# Altium integrated library WD Peripheral GPIB Interface Controller.IntLib: 3 symbols
Pins are listed as number, name and electrical type; pins without a type are passive.

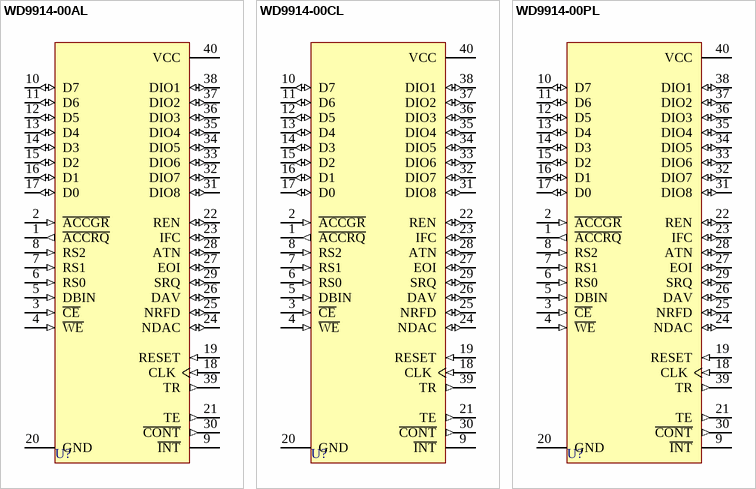
[diagram p0: symbols WD9914-00AL to WD9914-00PL]

## WD9914-00AL
designator U?
General Purpose Interface Bus Controller; PackageDocument: 1984; Published: 8-Jun-2000; LatestRevisionDate: 4-Mar-2005; LatestRevisionNote: Stylized 3D Model Added.; DatasheetDocument: 1984; PackageReference: AL40; Publisher: Altium Limited; ComponentLink1Description: Manufacturer Link; ComponentLink1URL: http://www.wdc.com/
footprint AL40 (DIP; 40 Leads; Row Spacing 15.24 mm; Pitch 2.54 mm)
3D model AL40 (DIP; 40 Leads; Row Spacing 15.24 mm; Pitch 2.54 mm)
pins: 1 ~{ACCRQ} (out), 2 ~{ACCGR} (in), 3 ~{CE} (in), 4 ~{WE} (in), 5 DBIN (in), 6 RS0 (in), 7 RS1 (in), 8 RS2 (in), 9 ~{INT} (oc), 10 D7 (io), 11 D6 (io), 12 D5 (io), 13 D4 (io), 14 D3 (io), 15 D2 (io), 16 D1 (io), 17 D0 (io), 18 CLK (in), 19 RESET (in), 20 GND (power), 21 TE (out), 22 REN (io), 23 IFC (io), 24 NDAC (io), 25 NRFD (io), 26 DAV (io), 27 EOI (io), 28 ATN (io), 29 SRQ (io), 30 ~{CONT} (out), 31 DIO8 (io), 32 DIO7 (io), 33 DIO6 (io), 34 DIO5 (io), 35 DIO4 (io), 36 DIO3 (io), 37 DIO2 (io), 38 DIO1 (io), 39 TR (out), 40 VCC (power)

## WD9914-00CL
designator U?
General Purpose Interface Bus Controller; PackageDocument: 1984; Published: 8-Jun-2000; LatestRevisionDate: 4-Mar-2005; LatestRevisionNote: Stylized 3D Model Added.; DatasheetDocument: 1984; PackageReference: CL40; Publisher: Altium Limited; ComponentLink1Description: Manufacturer Link; ComponentLink1URL: http://www.wdc.com/
footprint CL40 (DIP; 40 Leads; Row Spacing 15.24 mm; Pitch 2.54 mm)
3D model PL40 (DIP; 40 Leads; Row Spacing 15.24 mm; Pitch 2.54 mm)
pins: 1 ~{ACCRQ} (out), 2 ~{ACCGR} (in), 3 ~{CE} (in), 4 ~{WE} (in), 5 DBIN (in), 6 RS0 (in), 7 RS1 (in), 8 RS2 (in), 9 ~{INT} (oc), 10 D7 (io), 11 D6 (io), 12 D5 (io), 13 D4 (io), 14 D3 (io), 15 D2 (io), 16 D1 (io), 17 D0 (io), 18 CLK (in), 19 RESET (in), 20 GND (power), 21 TE (out), 22 REN (io), 23 IFC (io), 24 NDAC (io), 25 NRFD (io), 26 DAV (io), 27 EOI (io), 28 ATN (io), 29 SRQ (io), 30 ~{CONT} (out), 31 DIO8 (io), 32 DIO7 (io), 33 DIO6 (io), 34 DIO5 (io), 35 DIO4 (io), 36 DIO3 (io), 37 DIO2 (io), 38 DIO1 (io), 39 TR (out), 40 VCC (power)

## WD9914-00PL
designator U?
General Purpose Interface Bus Controller; PackageDocument: 1984; Published: 8-Jun-2000; LatestRevisionDate: 4-Mar-2005; LatestRevisionNote: Stylized 3D Model Added.; DatasheetDocument: 1984; PackageReference: PL40; Publisher: Altium Limited; ComponentLink1Description: Manufacturer Link; ComponentLink1URL: http://www.wdc.com/
footprint PL40 (DIP; 40 Leads; Row Spacing 15.24 mm; Pitch 2.54 mm)
3D model PL40 (DIP; 40 Leads; Row Spacing 15.24 mm; Pitch 2.54 mm)
pins: 1 ~{ACCRQ} (out), 2 ~{ACCGR} (in), 3 ~{CE} (in), 4 ~{WE} (in), 5 DBIN (in), 6 RS0 (in), 7 RS1 (in), 8 RS2 (in), 9 ~{INT} (oc), 10 D7 (io), 11 D6 (io), 12 D5 (io), 13 D4 (io), 14 D3 (io), 15 D2 (io), 16 D1 (io), 17 D0 (io), 18 CLK (in), 19 RESET (in), 20 GND (power), 21 TE (out), 22 REN (io), 23 IFC (io), 24 NDAC (io), 25 NRFD (io), 26 DAV (io), 27 EOI (io), 28 ATN (io), 29 SRQ (io), 30 ~{CONT} (out), 31 DIO8 (io), 32 DIO7 (io), 33 DIO6 (io), 34 DIO5 (io), 35 DIO4 (io), 36 DIO3 (io), 37 DIO2 (io), 38 DIO1 (io), 39 TR (out), 40 VCC (power)